# EAGLE library part B39921B3588U410 (library B39921B3588U410)
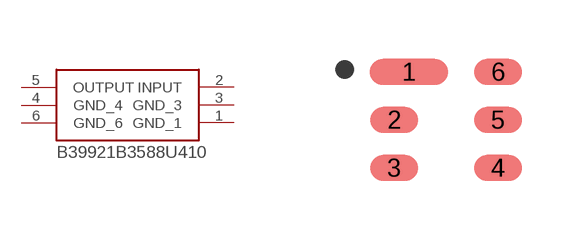
[diagram p0: symbol with the pads of SON120P300X300X110-6N; footprint SON120P300X300X110-6N]

Designator prefix -

## B39921B3588U410  [SON120P300X300X110-6N]
1  GND_1
2  INPUT
3  GND_3
4  GND_4
5  OUTPUT
6  GND_6

## Footprint SON120P300X300X110-6N (pad centres in mm)
smd 1.96 x 0.65: 1 -0.93,1.2
smd 1.2 x 0.65: 2 -1.3,0; 3 -1.3,-1.2; 4 1.3,-1.2; 5 1.3,0; 6 1.3,1.2